# Altium schematic symbol library leggiero.SchLib: 14 symbols
Pins are listed as number, name and electrical type; pins without a type are passive.

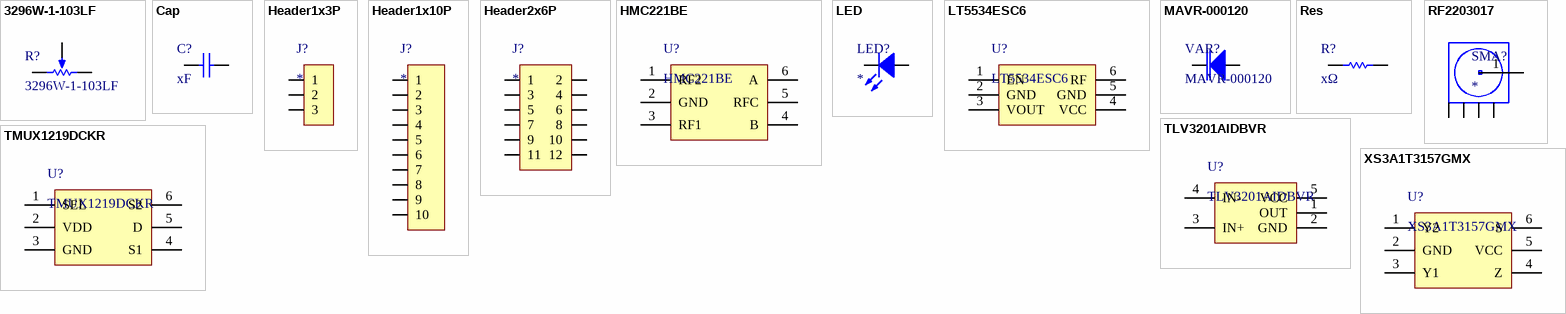
[diagram p0: symbols 3296W-1-103LF to XS3A1T3157GMX]

## 3296W-1-103LF
designator R?
C34846
footprint 3296W-1-103LF (C34846)
pins: 1 CCW, 2 WIPER, 3 CW

## Cap
designator C?, comment xF
footprint C0402
footprint C0603
pins: 1, 2

## Header1x3P
designator J?
C7430359
footprint Header1x3P
pins: 1, 2, 3

## Header1x10P
designator J?
C5156617
footprint Header1x10P
pins: 1, 2, 3, 4, 5, 6, 7, 8, 9, 10

## Header2x6P
designator J?
C92269
footprint Header2x6P
pins: 1, 2, 3, 4, 5, 6, 7, 8, 9, 10, 11, 12

## HMC221BE
designator U?
C1526247
footprint SOT-23-6 (HMC221BE C1526247)
pins: 1 RF2, 2 GND (power), 3 RF1, 4 B, 5 RFC, 6 A

## LED
designator LED?
footprint LED0603
pins: 1 *, 2 *

## LT5534ESC6
designator U?
C459867
footprint LT5534ESC6#TRPBF
pins: 1 EN, 2 GND (power), 3 VOUT, 4 VCC (power), 5 GND (power), 6 RF

## MAVR-000120
designator VAR?
C5139746
footprint D0201
pins: 1 K, 2 A

## Res
designator R?, comment xΩ
footprint R0402
pins: 1, 2

## RF2203017
designator SMA?
C2982575
footprint RF2203017 (C2982575)
pins: 1 SIG, 2 GND (power), 3 GND (power), 4 GND (power), 5 GND (power)

## TLV3201AIDBVR
designator U?
C105188
footprint TLV3201AIDBVR
pins: 1 OUT, 2 GND (power), 3 IN+, 4 IN-, 5 VCC (power)

## TMUX1219DCKR
designator U?
C2867958
footprint SC-70-6 (TMUX1219DCKR C2867958)
pins: 1 SEL, 2 VDD (power), 3 GND (power), 4 S1, 5 D, 6 S2

## XS3A1T3157GMX
designator U?
C3657276
footprint XSON6_115
pins: 1 Y2, 2 GND (power), 3 Y1, 4 Z, 5 VCC (power), 6 S